# Altium footprint library ee_453_ret.PcbLib: 17 footprints (part 2 of 2)
Each footprint in its own frame and in the unit in brackets; x right, y up, seen from the top. Pads: shape width x height; smd on the part's side, far side on the other; paste and mask are expansions set on the pad; w line width, h text height; cw(c..) or ccw(c..) is an arc to the next point about the centre after c.
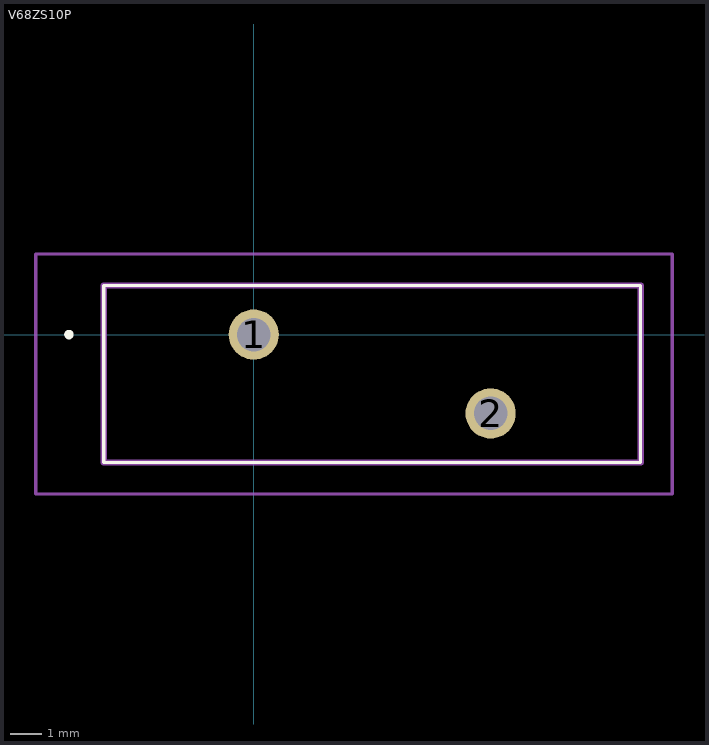
[diagram p1: the footprint, top view; thin cyan lines are the x and y axes]

## V68ZS10P [mm]
pads (2):
  round 1.59 hole 1.06: 1(0,0) 2(7.5,-2.5)
Top Overlay:
  lines w0.1: -4.75,-4.05 12.25,-4.05 12.25,1.55 -4.75,1.55 -4.75,-4.05
  lines w0.2: -5.9,0 ccw(c-5.85,0) -5.8,0 ; -5.9,0 cw(c-5.85,0) -5.8,0 ; -5.9,0 ccw(c-5.85,0) -5.8,0
Mechanical 13:
  lines w0.2: -4.75,-4.05 12.25,-4.05 12.25,1.55 -4.75,1.55 -4.75,-4.05
Mechanical 15:
  lines w0.1: -6.9,-5.05 13.25,-5.05 13.25,2.55 -6.9,2.55 -6.9,-5.05
3D body "V68ZS10P.stp": height 20.1, standoff -5, extent -4.75,-4.05 12.25,1.55